# EAGLE library part DS620 (library ds620)
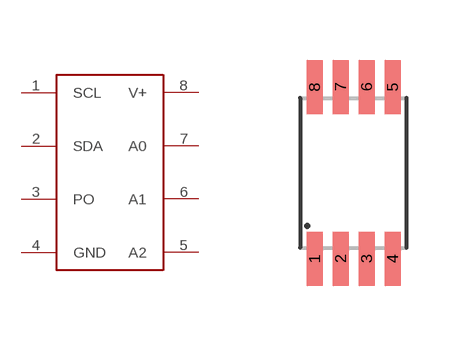
[diagram p0: symbol with the pads of DS620; footprint DS620]

Designator prefix -

## DS620  [DS620]
1  SCL
2  SDA
3  PO
4  GND
5  A2
6  A1
7  A0
8  V+

## Footprint DS620 (pad centres in mm)
SOT-563 Source: www.centralsemi.com ..SOT-563PD.pdf
smd 0.4 x 1.35: 1 -0.65,-2.15; 2 0,-2.15; 3 0.65,-2.15; 4 1.3,-2.15; 5 1.3,2.15; 6 0.65,2.15; 7 0,2.15; 8 -0.65,2.15